# Altium schematic symbol library SCH - FUSE - UNMOUNTED FUSE.SchLib: 1 symbol
Pins are listed as number, name and electrical type; pins without a type are passive.

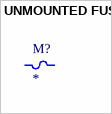
[diagram p0: symbol UNMOUNTED FUSE]

## UNMOUNTED FUSE
designator M?